# EAGLE library part ADAFRUIT_BMP280_BREAKOUT (library companion_board)
PIN HEADER
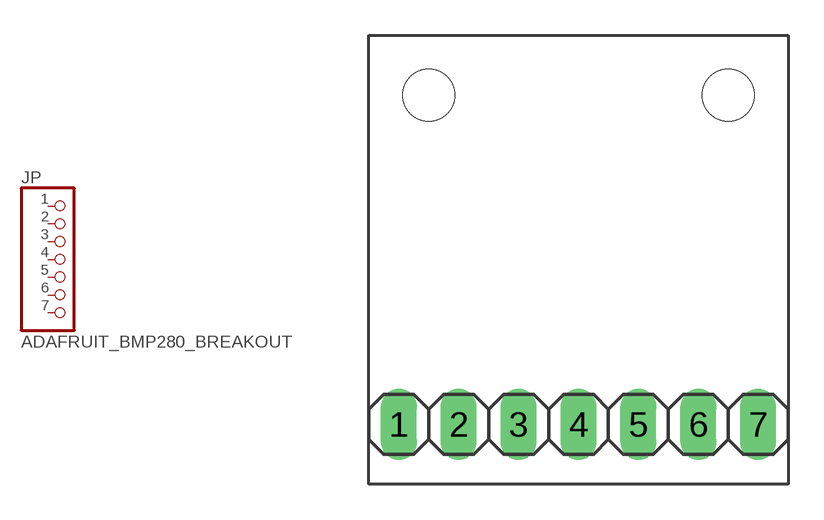
[diagram p4: symbol with the pads of ADAFRUIT_BMP280_OUTLINE; footprint ADAFRUIT_BMP280_OUTLINE]

Designator prefix JP

## ADAFRUIT_BMP280_BREAKOUT  [ADAFRUIT_BMP280_OUTLINE]
1  1  pas
2  2  pas
3  3  pas
4  4  pas
5  5  pas
6  6  pas
7  7  pas

## Footprint ADAFRUIT_BMP280_OUTLINE (pad centres in mm)
PIN HEADER
drill 1.016 long: 1 -7.62,0; 2 -5.08,0; 3 -2.54,0; 4 0,0; 5 2.54,0; 6 5.08,0; 7 7.62,0
hole 2.2 at -6.35,13.97
hole 2.2 at 6.35,13.97